# EAGLE library part MFI337S3959 (library ICs)
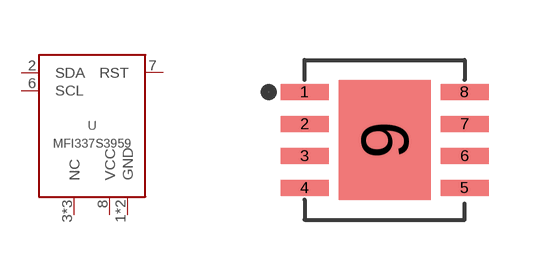
[diagram p45: symbol with the pads of PG-USON-8-1; footprint PG-USON-8-1]

Designator prefix U

## MFI337S3959 (MFG: Microchip; MPN: MFI337S3959; VALUE: MFI337S)  [PG-USON-8-1]
1  GND
2  SDA
3  NC
4  NC
5  NC
6  SCL
7  RST
8  VCC
9  GND

## Footprint PG-USON-8-1 (pad centres in mm)
smd 1.2 x 0.4: 1 -2,1.2; 2 -2,0.4; 3 -2,-0.4; 4 -2,-1.2; 5 2,-1.2; 6 2,-0.4; 7 2,0.4; 8 2,1.2
smd 2.3 x 3: 9 0,0